# Altium footprint library TEST&JUMPER.PcbLib: 74 footprints (part 4 of 5)
Each footprint in its own frame and in the unit in brackets; x right, y up, seen from the top. Pads: shape width x height; smd on the part's side, far side on the other; paste and mask are expansions set on the pad; w line width, h text height; cw(c..) or ccw(c..) is an arc to the next point about the centre after c.
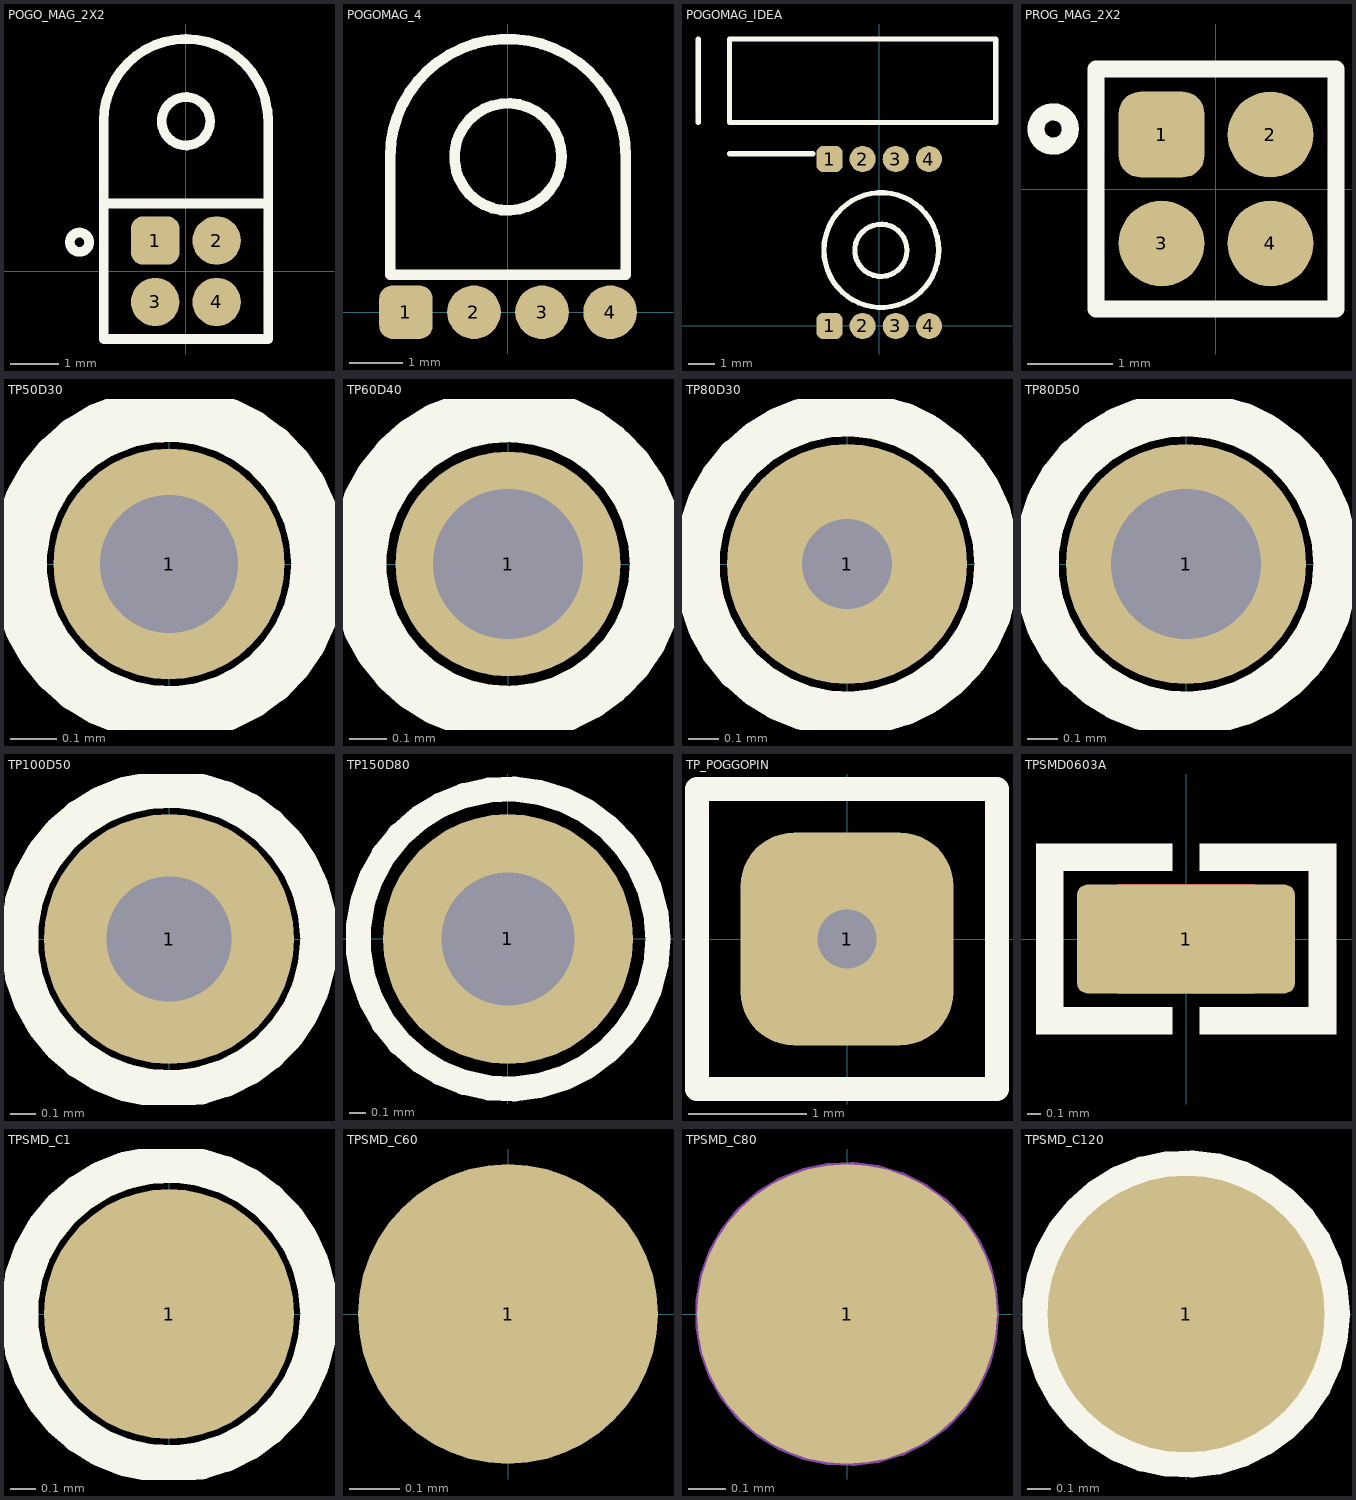
[diagram p3: the footprints below, top view; thin cyan lines are the x and y axes]

## POGO_MAG_2X2 [mm] "HEADER 1.27mm with magnet"
height 16.4
pads (4):
  rrect50% 1x1 smd mask+0.05: 1(-0.635,0.635)
  round 1 smd mask+0.05: 2(0.635,0.635) 3(-0.635,-0.635) 4(0.635,-0.635)
Top Overlay:
  circle w0.2: c-2.2,0.6 r0.2
  circle w0.2: c0,3.1 r0.5
  lines w0.2: -1.7,1.4 -1.7,3.1 cw(c0,3.1) 1.7,3.1 1.7,1.4 ; -1.7,1.4 1.7,1.4 ; -1.7,1.4 -1.7,-1.4 1.7,-1.4 1.7,1.4
3D body: height 1, standoff 0, extent -0.5,2.6 0.5,3.6

## POGOMAG_4 [mm] "debug pogo pin with magnet"
height 16.4
pads (4):
  rrect50% 1x1 smd mask+0.1: 1(-1.905,0)
  round 1 smd mask+0.1: 2(-0.635,0) 3(0.635,0) 4(1.905,0)
Top Overlay:
  circle w0.2: c0,2.9 r1
  lines w0.2: -2.2,0.7 -2.2,2.9 cw(c0,2.9) 2.2,2.9 2.2,0.7 -2.2,0.7
3D body: height 2, standoff 0, extent -1,1.9 1,3.9

## POGOMAG_IDEA [mm] "debug pogo pin with magnet"
height 16.4
pads (8):
  rrect50% 1x1 smd mask+0.1: 1(-1.905,0) 1(-1.905,6.4)
  round 1 smd mask+0.1: 2(-0.635,0) 2(-0.635,6.4) 3(0.635,0) 3(0.635,6.4) 4(1.905,0) 4(1.905,6.4)
Top Overlay:
  circle w0.2: c0.08,2.909 r2.2
  circle w0.2: c0.065,2.9 r1
  lines w0.2: -6.935,7.8 -6.935,11 ; -5.735,6.6 -2.535,6.6 ; -5.735,7.8 4.465,7.8 4.465,11 -5.735,11 -5.735,7.8
3D body: height 2, standoff 0, extent -5.635,7.9 4.365,10.9
3D body: height 2, standoff 0, extent -0.935,1.9 1.065,3.9

## PROG_MAG_2X2 [mm] "HEADER 1.27mm with magnet , only magnet"
height 16.4
pads (4):
  rrect50% 1x1 smd mask+0.05: 1(-0.635,0.635)
  round 1 smd mask+0.05: 2(0.635,0.635) 3(-0.635,-0.635) 4(0.635,-0.635)
Top Overlay:
  circle w0.2: c-1.9,0.7 r0.2
  lines w0.2: -1.4,-1.4 -1.4,1.4 1.4,1.4 1.4,-1.4 -1.4,-1.4
3D body: height 1, standoff 0, extent 0.135,-1.135 1.135,-0.135
3D body: height 1, standoff 0, extent -1.135,-1.135 -0.135,-0.135
3D body: height 1, standoff 0, extent 0.135,0.135 1.135,1.135
3D body: height 1, standoff 0, extent -1.135,0.135 -0.135,1.135

## TP50D30 [mm] "TEST POINT 0.5mm WITH 0.3 mm Hole Diameter"
height 7.62
pads (1):
  round 0.5 hole 0.3 mask+0.025: 1(0,0)
Top Overlay:
  circle w0.12: c0,0 r0.325

## TP60D40 [mm] "TEST POINT 0.6mm WITH 0.4 mm Hole Diameter"
pads (1):
  round 0.6 hole 0.4 mask+0.025: 1(0,0)
Top Overlay:
  circle w0.15: c0,0 r0.4

## TP80D30 [mm] "TEST POINT 0.8mm WITH 0.3 mm Hole Diameter"
pads (1):
  round 0.8 / inner round 0.5 / far side round 0.5 hole 0.3 mask+0.025: 1(0,0)
Top Overlay:
  circle w0.15: c0,0 r0.5

## TP80D50 [mm]
pads (1):
  round 0.8 hole 0.5 mask+0.025: 1(0,0)
Top Overlay:
  circle w0.15: c0,0 r0.5

## TP100D50 [mm]
pads (1):
  round 1 hole 0.5 mask+0.025: 1(0,0)
Top Overlay:
  circle w0.15: c0,0 r0.6

## TP150D80 [mm] "TEST POINT 1.5mm WITH 0.8 mm Hole Diameter"
pads (1):
  round 1.5 hole 0.8 mask+0.075: 1(0,0)
Top Overlay:
  circle w0.15: c0,0 r0.9

## TP_POGGOPIN [mm] "TEST POINT for normal POGGOPIN"
pads (1):
  rrect50% 1.8x1.8 / inner round 1 / far side round 1 hole 0.5 mask+0.1: 1(0,0)
Top Overlay:
  lines w0.2: -1.27,-1.27 1.27,-1.27 1.27,1.27 -1.27,1.27 -1.27,-1.27

## TPSMD0603A [mm] "CHIP Capacitor, 1.6X0.8mm, 0603 for PCBA"
height 0.6
pads (1):
  rrect20% 1.6x0.8 smd paste-0.4 mask+0.075: 1(0,0)
Top Layer:
  pour cut-out: -0.5,0.4 0.5,0.4 0.5,-0.4 -0.5,-0.4
Top Overlay:
  region: 1.1,0.7 0.9,0.7 0.9,-0.7 1.1,-0.7
  region: 0.1,0.5 0.1,0.7 1.1,0.7 1.1,0.5
  region: 0.1,-0.5 0.1,-0.7 1.1,-0.7 1.1,-0.5
  region: -1.1,0.7 -0.9,0.7 -0.9,-0.7 -1.1,-0.7
  region: -0.1,0.5 -0.1,0.7 -1.1,0.7 -1.1,0.5
  region: -0.1,-0.5 -0.1,-0.7 -1.1,-0.7 -1.1,-0.5
3D body: height 1.15, standoff 0, extent -0.8,-0.4 0.8,0.4

## TPSMD_C1 [mm] "Test Point, SMD Pad, Circle, 1mm X 1mm"
pads (1):
  round 1 smd paste-1.016 mask+0.025: 1(0,0)
Top Overlay:
  circle w0.15: c0,0 r0.6

## TPSMD_C60 [mm] "Test Point, SMD Pad, Circle, 0.6mm X 0.6mm"
pads (1):
  round 0.6 smd paste-0.635 mask+0.051: 1(0,0)

## TPSMD_C80 [mm] "Test Point, SMD Pad, Circle, 0.8mm X 0.8mm"
pads (1):
  round 0.8 smd paste-0.762 mask+0.076: 1(0,0)
Mechanical 13:
  circle w0.05: c0,0 r0.381

## TPSMD_C120 [mm] "Test Point, SMD Pad, Circle, 1.2mm X1.2mm"
height 7.62
pads (1):
  round 1.2 smd paste-3 mask+0: 1(0,0)
Top Overlay:
  circle w0.12: c0,0 r0.65